# Altium footprint library Infineon.PcbLib: 1 footprints
Each footprint in its own frame and in the unit in brackets; x right, y up, seen from the top. Pads: shape width x height; smd on the part's side, far side on the other; paste and mask are expansions set on the pad; w line width, h text height; cw(c..) or ccw(c..) is an arc to the next point about the centre after c.
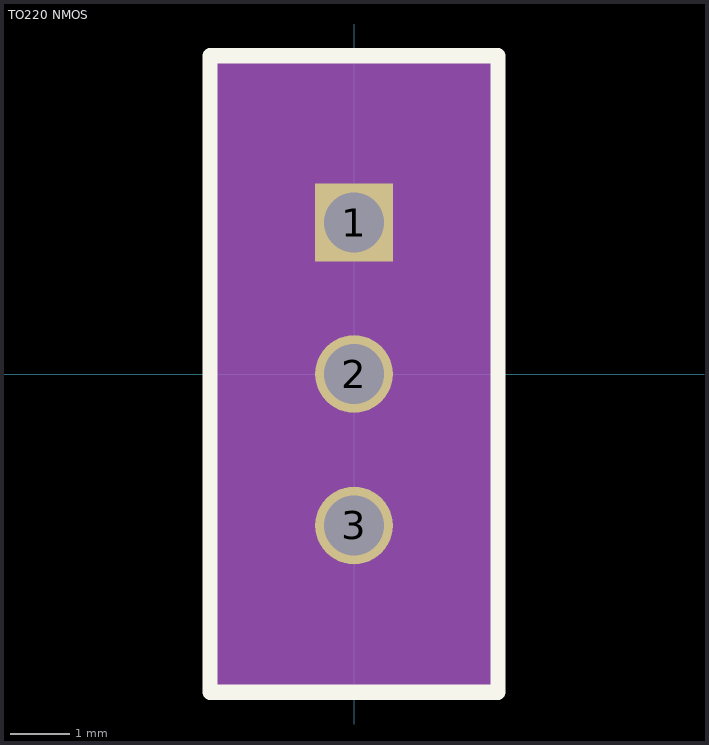
[diagram p0: the footprint, top view; thin cyan lines are the x and y axes]

## TO220 NMOS [mm]
pads (3):
  rect 1.3x1.3 hole 1: 1(0,2.54)
  round 1.3 hole 1: 2(0,0) 3(0,-2.54)
Top Overlay:
  lines w0.254: -2.415,-5.335 -2.415,5.335 2.415,5.335 2.415,-5.335 -2.415,-5.335
Mechanical 13:
  rectangle: -2.415,-5.335 2.415,5.335
  text "'.Designator'" at -2.54,5.969 h0.7